# Altium footprint library LQH3NP.PcbLib: 1 footprints
Each footprint in its own frame and in the unit in brackets; x right, y up, seen from the top. Pads: shape width x height; smd on the part's side, far side on the other; paste and mask are expansions set on the pad; w line width, h text height; cw(c..) or ccw(c..) is an arc to the next point about the centre after c.
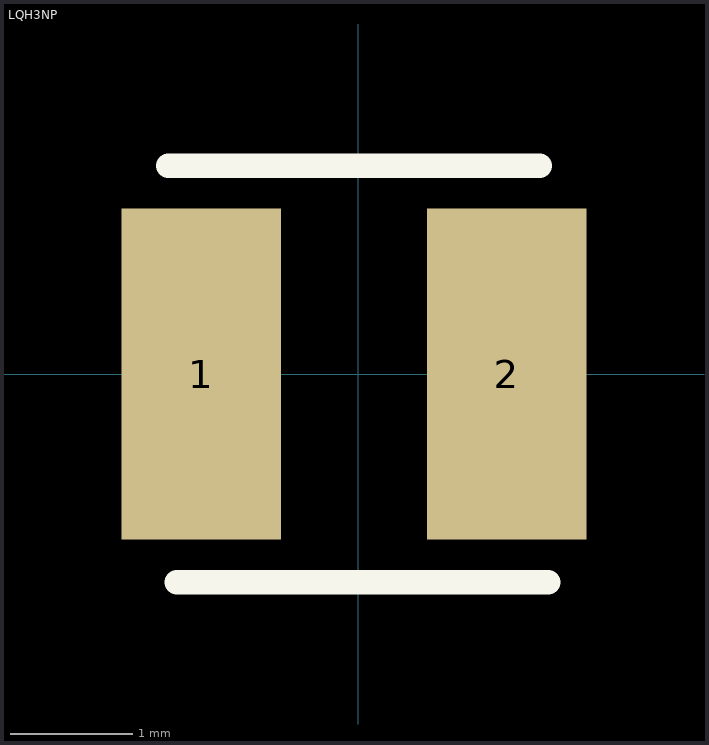
[diagram p0: the footprint, top view; thin cyan lines are the x and y axes]

## LQH3NP [mm] "Size Code 3030 (1212) in mm (in inch), 1.5mm max.Thickness. high performance type"
height 1.4
pads (2):
  rect 1.3x2.7 smd: 1(-1.28,0) 2(1.21,0)
Top Overlay:
  lines w0.2: -1.55,1.7 1.48,1.7 ; -1.48,-1.7 1.55,-1.7
3D body "User Library-Murata_LQH3NP_M0(1212).step": height 1.4, standoff -0.01, extent -1.54,-1.51 1.48,1.49